# EAGLE library part HEF4082BT,653 (library formula electric)
568-7702-1-ND
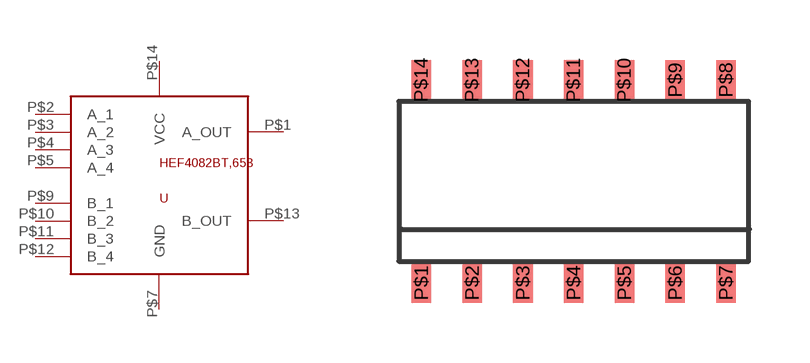
[diagram p8: symbol with the pads of NXP_14_SOIC; footprint NXP_14_SOIC]

Designator prefix -

## HEF4082BT,653  [NXP_14_SOIC]
P$1  A_OUT  out
P$2  A_1  oc
P$3  A_2  oc
P$4  A_3  oc
P$5  A_4  oc
P$7  GND  pwr
P$9  B_1  oc
P$10  B_2  oc
P$11  B_3  oc
P$12  B_4  oc
P$13  B_OUT  out
P$14  VCC  pwr

## Footprint NXP_14_SOIC (pad centres in mm)
smd 0.49 x 1: P$1 -3.81,-2.54; P$2 -2.54,-2.54; P$3 -1.27,-2.54; P$4 0,-2.54; P$5 1.27,-2.54; P$6 2.54,-2.54; P$7 3.81,-2.54; P$8 3.81,2.54; P$9 2.54,2.54; P$10 1.27,2.54; P$11 0,2.54; P$12 -1.27,2.54; P$13 -2.54,2.54; P$14 -3.81,2.54